# Altium footprint library Circular_24_Channel_Emulator_Review_done.PcbLib: 1 footprints
Each footprint in its own frame and in the unit in brackets; x right, y up, seen from the top. Pads: shape width x height; smd on the part's side, far side on the other; paste and mask are expansions set on the pad; w line width, h text height; cw(c..) or ccw(c..) is an arc to the next point about the centre after c.
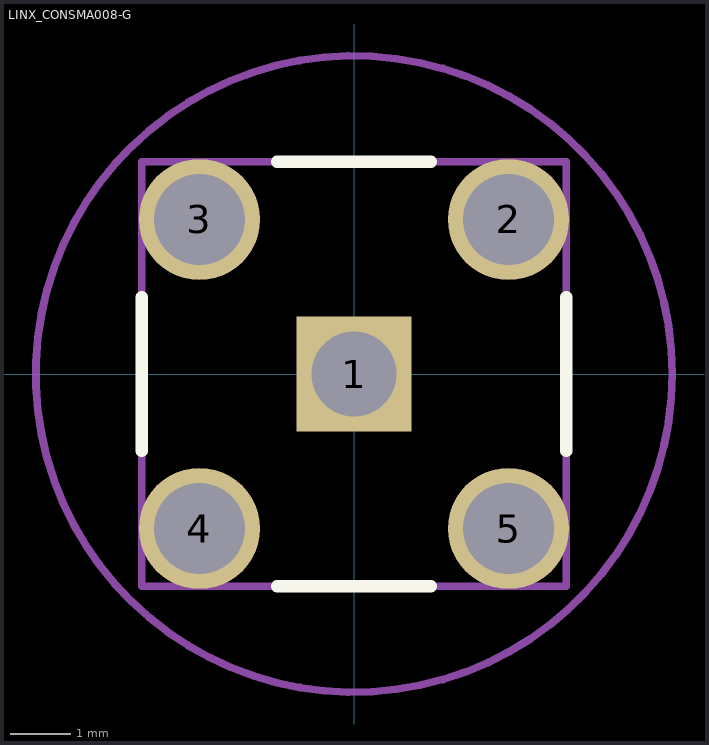
[diagram p0: the footprint, top view; thin cyan lines are the x and y axes]

## LINX_CONSMA008-G [mm] "CONN SMA RCPT STR 50 OHM PCB"
height 17.68
pads (5):
  rect 1.9x1.9 hole 1.4: 1(0,0)
  round 2 hole 1.5: 2(2.55,2.55) 3(-2.55,2.55) 4(-2.55,-2.55) 5(2.55,-2.55)
Top Overlay:
  lines w0.203: -3.5,-1.27 -3.5,1.27 ; -1.27,-3.5 1.27,-3.5 ; -1.27,3.5 1.27,3.5 ; 3.5,-1.27 3.5,1.27
Mechanical 1:
  text ".Designator" at 0,0 h1.52
Mechanical 15:
  circle w0.127: c0,0 r5.25
  circle w0.127: c0,0 r0.508
  lines w0.127: -3.5,-3.5 -3.5,3.5 3.5,3.5 3.5,-3.5 -3.5,-3.5
3D body "CONSMA008-G--3DModel-STEP-56544.STEP": height 13.49, standoff -4.19, extent -5.1,-5.1 5.1,5.1